# EAGLE library part WE-RJ45_74981102100 (library WE-RJ45_LAN)
WE-RJ45 LAN Through Hole Reflow Characteristics RJ45 designed to use for Pin-in-Paste soldering High mechanical stability through THT pins High Temperature LEDs Extra high standoff for a good thermal airflow Power over Ethernet up to 30 W Compliant with standard: IEEE 802.3u, IEEE 802.3ab, IEEE 802.3af, IEEE 802.3at Applications Suitable for industrial temperatures from –40 °C up to +85 °C Compatible to Industrial Ethernet systems like EtherCAT or Profinet Compliant with most IC’s for Ethernet applications such as Microchip, Texas Instruments, Broadcom, Linear Technology Hubs, Routers, Switches, IP cameras, IoT applications Details see: www.we-online.com/components/products/WE-LAN-RJ45_THR Updated By Ella Wu 2019-11-06 2019 (C) Würth Elektronik
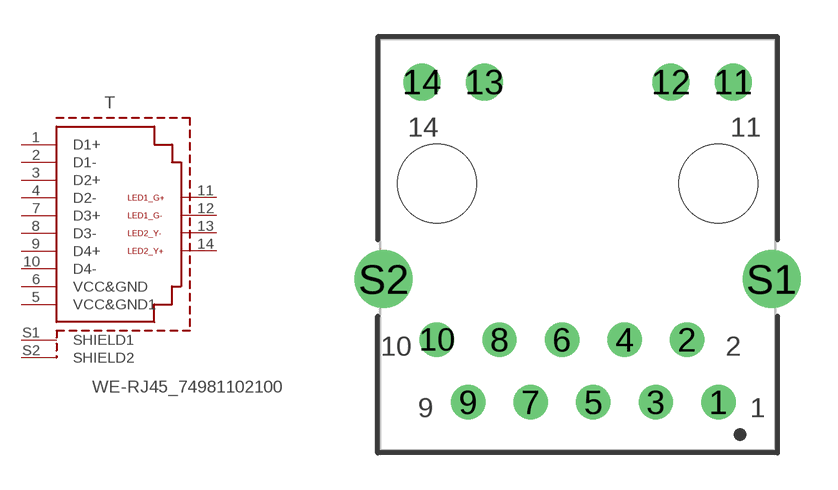
[diagram p15: symbol with the pads of 74981102100; footprint 74981102100]

Designator prefix T

## WE-RJ45_74981102100 (DATA-RATE: 10/100/1000BASE-T; DATASHEET: https://www.we-online.com/redexpert/spec/74981102100?ae; IMPROVED-CMRR: No; LED: green-yellow; MOUNT: THR; OPERATING-TEMPERATURE: -40 °C up to +85 °C; PART-NUMBER: 74981102100; PHY-CHIP-MODE: current; POE: non-PoE; PORTS: 1; SHIELD-TABS: No; TAB: Vertical; USB: No; VALUE: 74981102100)  [74981102100]
1  D1+  pas
2  D1-  pas
3  D2+  pas
4  D2-  pas
5  VCC&GND1  pas
6  VCC&GND  pas
7  D3+  pas
8  D3-  pas
9  D4+  pas
10  D4-  pas
11  LED1_G+  pas
12  LED1_G-  pas
13  LED2_Y-  pas
14  LED2_Y+  pas
S1  SHIELD1  pas
S2  SHIELD2  pas

## Footprint 74981102100 (pad centres in mm)
WE-RJ45 LAN Through Hole Reflow 10/100/1000BASE-T, Ports:1, Tab:Vertical
drill 0.89: 1 5.715,-8.89; 2 4.445,-6.35; 3 3.175,-8.89; 4 1.905,-6.35; 5 0.635,-8.89; 6 -0.635,-6.35; 7 -1.905,-8.89; 8 -3.175,-6.35; 9 -4.445,-8.89; 10 -5.715,-6.35
drill 1: 11 6.325,4.11; 12 3.785,4.11; 13 -3.785,4.11; 14 -6.325,4.11
drill 1.57: S1 7.875,-3.89; S2 -7.875,-3.89
hole 3.2 at 5.715,0
hole 3.2 at -5.715,0